# Altium footprint library ABRACON_ARJM11D7-009-AB-EW2.PcbLib: 1 footprints
Each footprint in its own frame and in the unit in brackets; x right, y up, seen from the top. Pads: shape width x height; smd on the part's side, far side on the other; paste and mask are expansions set on the pad; w line width, h text height; cw(c..) or ccw(c..) is an arc to the next point about the centre after c.
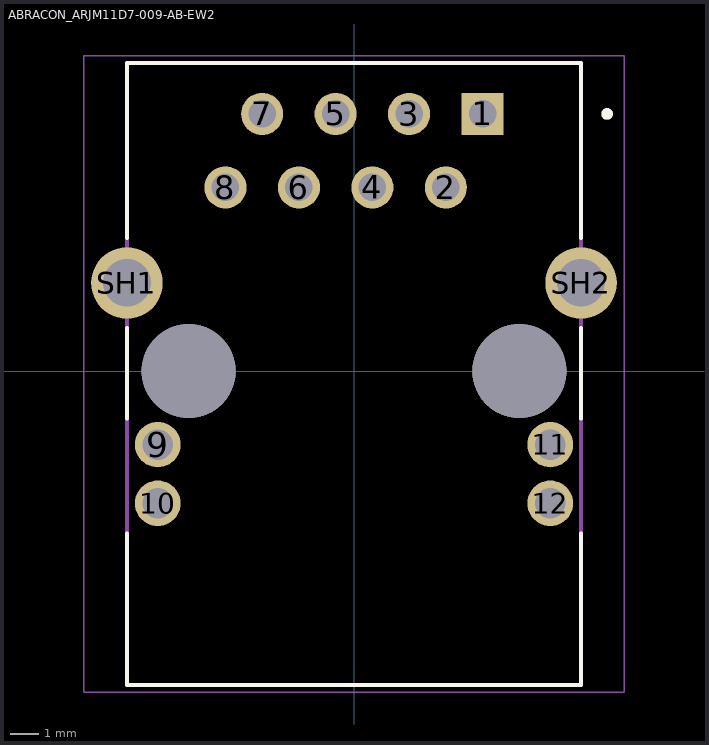
[diagram p0: the footprint, top view; thin cyan lines are the x and y axes]

## ABRACON_ARJM11D7-009-AB-EW2 [mm]
height 13.8
pads (16):
  rect 1.458x1.458 / inner round 1.458 / far side rect 1.458x1.458 hole 0.95: 1(4.445,8.89)
  round 1.458 hole 0.95: 2(3.175,6.35) 3(1.905,8.89) 4(0.635,6.35) 5(-0.635,8.89) 6(-1.905,6.35) 7(-3.175,8.89) 8(-4.445,6.35)
  round 1.575 hole 1.05: 9(-6.785,-2.54) 10(-6.785,-4.57) 11(6.785,-2.54) 12(6.785,-4.57)
  round 2.475 hole 1.65: SH1(-7.85,3.05) SH2(7.85,3.05)
  round 3.25 hole 3.25 unplated: ""(-5.715,0) ""(5.715,0)
Top Overlay:
  circle w0.2: c8.75,8.89 r0.1
  lines w0.127: -7.85,-5.6 -7.85,-10.85 7.85,-10.85 7.85,-5.6 ; -7.85,-1.65 -7.85,1.499 ; -7.85,4.601 -7.85,10.65 7.85,10.65 7.85,4.601 ; 7.85,-1.65 7.85,1.499
Mechanical 13:
  circle w0.2: c8.75,8.89 r0.1
  lines w0.127: -7.85,-10.85 7.85,-10.85 7.85,10.65 -7.85,10.65 -7.85,-10.85
Mechanical 15:
  lines w0.05: -9.337,-11.1 9.337,-11.1 9.337,10.9 -9.337,10.9 -9.337,-11.1
3D body "ARJM11D7-009-AB-EW2--3DModel-STEP-368357.STEP": height 13.26, standoff -4.13, extent -7.99,-10.795 7.99,10.855